# EAGLE library part AXK6S20*?7YG (library Connector)
P5KS - 20POS HEADER Panasonic Narrow Pitch Connectors (0.5mm) Panasonic P5K(S) Series <https://www.panasonic-electric-works.com/eu-asset/en/downloads/ds_65305_en_p5k_p5ks.pdf>
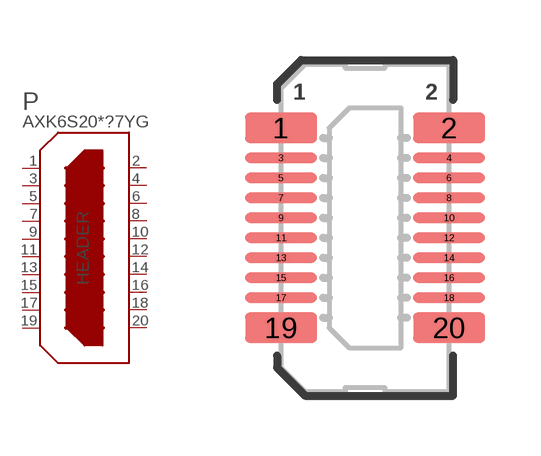
[diagram p6: symbol with the pads of AXK6S20X4; footprint AXK6S20X4]

Designator prefix P

## AXK6S20447YG (HEIGHT: 4.0mm, 4.5mm, 7mm; PARTNO: 29-100XXX-00), AXK6S20547YG (HEIGHT: 5.0mm, 5.5mm, 8.0mm), AXK6S20647YG (HEIGHT: 6.0mm, 6.5mm, 9.0mm)  [AXK6S20X4]
1  1  pas
2  2  pas
3  3  pas
4  4  pas
5  5  pas
6  6  pas
7  7  pas
8  8  pas
9  9  pas
10  10  pas
11  11  pas
12  12  pas
13  13  pas
14  14  pas
15  15  pas
16  16  pas
17  17  pas
18  18  pas
19  19  pas
20  20  pas

## Footprint AXK6S20X4 (pad centres in mm)
CONN HEADER BRD/BRD .5MM 20POS Without Position Boss Panasonic P5K(S) Series <https://www.panasonic-electric-works.com/eu-asset/en/downloads/ds_65305_en_p5k_p5ks.pdf>
smd 1.8 x 0.75: 1 -2.1,2.5; 2 2.1,2.5; 19 -2.1,-2.5; 20 2.1,-2.5
smd 1.8 x 0.25: 3 -2.1,1.75; 4 2.1,1.75; 5 -2.1,1.25; 6 2.1,1.25; 7 -2.1,0.75; 8 2.1,0.75; 9 -2.1,0.25; 10 2.1,0.25; 11 -2.1,-0.25; 12 2.1,-0.25; 13 -2.1,-0.75; 14 2.1,-0.75; 15 -2.1,-1.25; 16 2.1,-1.25; 17 -2.1,-1.75; 18 2.1,-1.75